# Altium schematic symbol library HMC700LP4.SchLib: 1 symbol
Pins are listed as number, name and electrical type; pins without a type are passive.

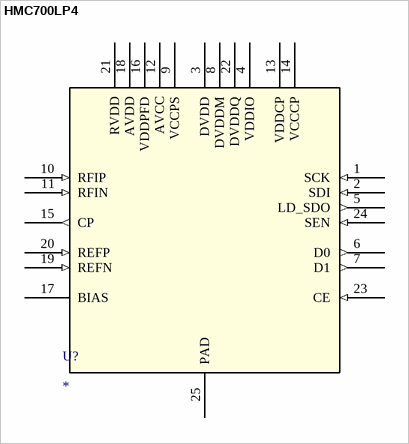
[diagram p0: symbol HMC700LP4]

## HMC700LP4
designator U?
Value: Value; Type: Type; RefDes: RefDes
pins: 1 SCK (in), 2 SDI (in), 3 DVDD (power), 4 VDDIO (power), 5 LD_SDO (out), 6 D0 (out), 7 D1 (out), 8 DVDDM (power), 9 VCCPS (power), 10 RFIP (in), 11 RFIN (in), 12 AVCC (power), 13 VDDCP (power), 14 VCCCP (power), 15 CP (out), 16 VDDPFD (power), 17 BIAS, 18 AVDD (power), 19 REFN (in), 20 REFP (in), 21 RVDD (power), 22 DVDDQ (power), 23 CE (in), 24 SEN (in), 25 PAD (power)